# EAGLE library part PIC16* (library PICs)
PIC16* Device used for 18 Pin PIC16* microcontrollers with compatible pin layouts. Known Compatible: +PIC16C62XA +PIC16C5X +PIC12CXXX +PIC16F84 & 16F84A +Most (if not all) the other 18 Pin PIC chips Set the Value attribute on the schmatic symbol to have the PIC Model written across the schematic symbol. This will allows you to change the value atttribute only when changing the particular PIC chip you're using as long as it's another pin compatible device.
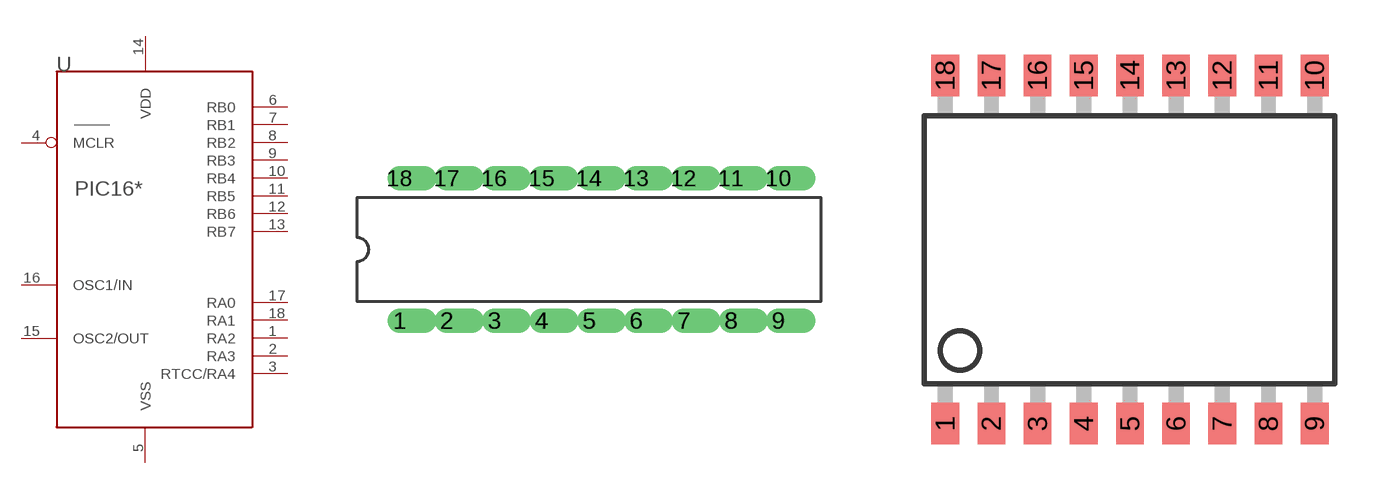
[diagram p0: symbol with the pads of DIL18; footprints DIL18, SOIC-18]

Designator prefix U

## PIC16-DIP18  [DIL18]
1  RA2
2  RA3
3  RTCC/RA4
4  MCLR  in
5  VSS  pwr
6  RB0
7  RB1
8  RB2
9  RB3
10  RB4
11  RB5
12  RB6
13  RB7
14  VDD  pwr
15  OSC2/OUT  out
16  OSC1/IN  in
17  RA0
18  RA1

## PIC16-SOIC-18  [SOIC-18]
Pads as for DIL18

## PIC16-SSOP-20  [SSOP-20]
1  RA2
2  RA3
3  RTCC/RA4
4  MCLR  in
5  VSS  pwr
7  RB0
8  RB1
9  RB2
10  RB3
11  RB4
12  RB5
13  RB6
14  RB7
15  VDD  pwr
17  OSC2/OUT  out
18  OSC1/IN  in
19  RA0
20  RA1

## Footprint DIL18 (pad centres in mm)
drill 0.813 offset: 1 -10.16,-3.81; 2 -7.62,-3.81; 3 -5.08,-3.81; 4 -2.54,-3.81; 5 0,-3.81; 6 2.54,-3.81; 7 5.08,-3.81; 8 7.62,-3.81; 9 10.16,-3.81; 10 10.16,3.81; 11 7.62,3.81; 12 5.08,3.81; 13 2.54,3.81; 14 0,3.81; 15 -2.54,3.81; 16 -5.08,3.81; 17 -7.62,3.81; 18 -10.16,3.81

## Footprint SOIC-18 (pad centres in mm)
18 Pin - Small Outline Package 300 mil package, Gull swing leads
smd 0.762 x 1.143: 1 -5.08,-4.788; 2 -3.81,-4.788; 3 -2.54,-4.788; 4 -1.27,-4.788; 5 0,-4.788; 6 1.27,-4.788; 7 2.54,-4.788; 8 3.81,-4.788; 9 5.08,-4.788; 10 5.08,4.788; 11 3.81,4.788; 12 2.54,4.788; 13 1.27,4.788; 14 0,4.788; 15 -1.27,4.788; 16 -2.54,4.788; 17 -3.81,4.788; 18 -5.08,4.788

## Footprint SSOP-20 (pad centres in mm)
smd 0.4 x 1.5: 1 -2.925,-3.625; 2 -2.275,-3.625; 3 -1.625,-3.625; 4 -0.975,-3.625; 5 -0.325,-3.625; 6 0.325,-3.625; 7 0.975,-3.625; 8 1.625,-3.625; 9 2.275,-3.625; 10 2.925,-3.625; 11 2.925,3.625; 12 2.275,3.625; 13 1.625,3.625; 14 0.975,3.625; 15 0.325,3.625; 16 -0.325,3.625; 17 -0.975,3.625; 18 -1.625,3.625; 19 -2.275,3.625; 20 -2.925,3.625